# Altium schematic symbol library CX3225FB48000F0FZZH1.SchLib: 1 symbol
Pins are listed as number, name and electrical type; pins without a type are passive.

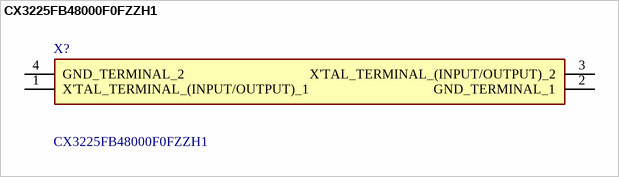
[diagram p0: symbol CX3225FB48000F0FZZH1]

## CX3225FB48000F0FZZH1
designator X?
Crystal, 48 MHz, SMD, 3.2mm x 2.5mm, 20 ppm, 10 pF, 10 ppm, CX3225FB Series; Manufacturer_Name: Kyocera AVX; Geometry.Height: 0.8mm; Manufacturer_Part_Number: CX3225FB48000F0FZZH1; Mouser Part Number: *; Mouser Price/Stock: *; Arrow Part Number: *; Arrow Price/Stock: *; Datasheet Link: https://ele.kyocera.com/assets/products/crystal-device/specification/CX3225FB_10pF.pdf
footprint CX3225FB48000F0FZZH1
pins: 1 X'TAL_TERMINAL_(INPUT/OUTPUT)_1, 2 GND_TERMINAL_1, 3 X'TAL_TERMINAL_(INPUT/OUTPUT)_2, 4 GND_TERMINAL_2